# EAGLE library part TPS54202 (library dc-dc)
4.5-V to 28-V Input, 2-A Output, EMI Friendly Synchronous Step Down Converter
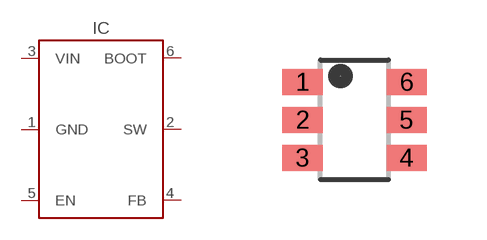
[diagram p12: symbol with the pads of SOT23-6; footprint SOT23-6]

Designator prefix IC

## TPS54202 (MANF: Texas Instruments; MANF#: TPS54202DDCR)  [SOT23-6]
1  GND
2  SW
3  VIN
4  FB
5  EN
6  BOOT

## Footprint SOT23-6 (pad centres in mm)
smd 1 x 0.65: 1 -1.3,0.95; 2 -1.3,0; 3 -1.3,-0.95; 4 1.3,-0.95; 5 1.3,0; 6 1.3,0.95